# Altium schematic symbol library Connectors.SchLib: 9 symbols
Pins are listed as number, name and electrical type; pins without a type are passive.

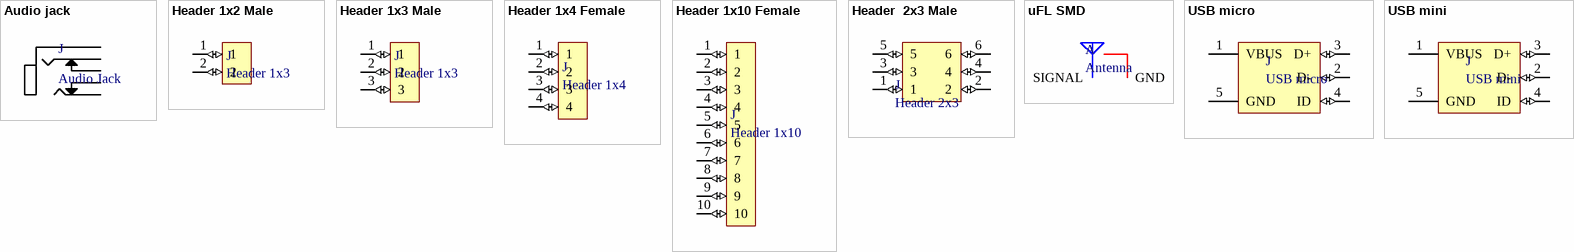
[diagram p0: symbols Audio jack to USB mini]

## Audio jack
designator J, comment Audio Jack
footprint Audio jack
pins: 1, 2, 3, 4, 5

## Header 1x2 Male
designator J, comment Header 1x3
footprint HEADER 1X2 MALE JST
pins: 1 (io), 2 (io)

## Header 1x3 Male
designator J, comment Header 1x3
footprint Header 1x3 Male JST
pins: 1 (io), 2 (io), 3 (io)

## Header 1x4 Female
designator J, comment Header 1x4
footprint Header 1x4 Female
pins: 1 (io), 2 (io), 3 (io), 4 (io)

## Header 1x10 Female
designator J, comment Header 1x10
footprint Header 1x10 Female
pins: 1 (io), 2 (io), 3 (io), 4 (io), 5 (io), 6 (io), 7 (io), 8 (io), 9 (io), 10 (io)

## Header  2x3 Male
designator J, comment Header 2x3
footprint Header 2x3 Male
pins: 1 (io), 2 (io), 3 (io), 4 (io), 5 (io), 6 (io)

## uFL SMD
designator A, comment Antenna
footprint uFL SMD (Antenna connector)
pins: 1 SIGNAL, 2 GND

## USB micro
designator J
footprint USB micro
pins: 1 VBUS, 2 D- (io), 3 D+ (io), 4 ID (io), 5 GND

## USB mini
designator J
footprint USB MINI
pins: 1 VBUS, 2 D- (io), 3 D+ (io), 4 ID (io), 5 GND